# EAGLE library part FPC1020AP (library FPC1020)
FPC1020AP Fingerprint Sensor LGA Package
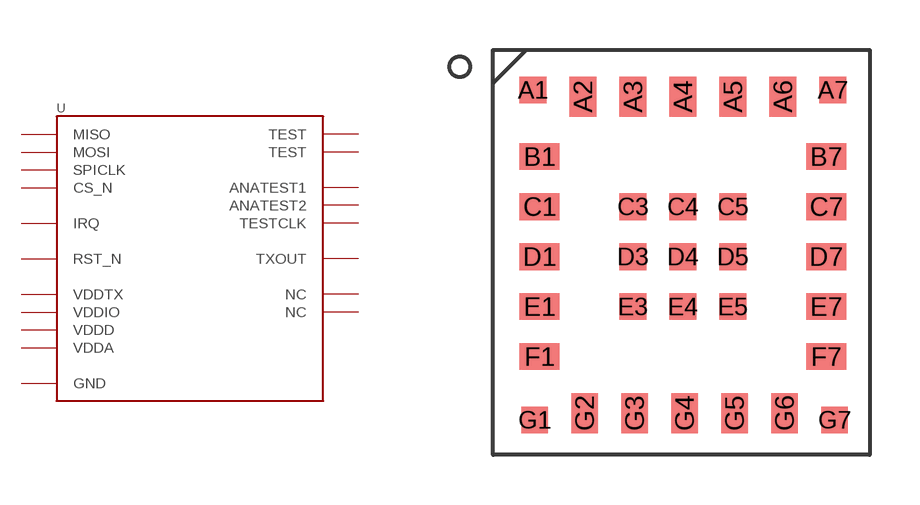
[diagram p1: symbol with the pads of FPC1020AP; footprint FPC1020AP]

Designator prefix -

## FPC1020AP  [FPC1020AP]
A1  GND  pwr
A2  TEST
A3  TESTCLK
A4  GND  pwr
A5  ANATEST1
A6  ANATEST2
A7  GND  pwr
B1  CS_N  in
B7  TEST
C1  MOSI
C3  GND  pwr
C4  GND  pwr
C5  GND  pwr
C7  NC  nc
D1  GND  pwr
D3  GND  pwr
D4  GND  pwr
D5  GND  pwr
D7  IRQ  out
E1  MISO
E3  GND  pwr
E4  GND  pwr
E5  GND  pwr
E7  TXOUT  out
F1  SPICLK  in
F7  VDDTX  pwr
G1  GND  pwr
G2  RST_N  in
G3  NC  nc
G4  VDDIO  pwr
G5  VDDD  pwr
G6  VDDA  pwr
G7  GND  pwr

## Footprint FPC1020AP (pad centres in mm)
FPC1020AP - TOUCH FINGERPRINT SENSOR LGA PACKAGE
smd 0.8 x 0.8: A1 1.2,-1.2; A7 10.2,-1.2; C3 4.2,-4.7; C4 5.7,-4.7; C5 7.2,-4.7; D3 4.2,-6.2; D4 5.7,-6.2; D5 7.2,-6.2; E3 4.2,-7.7; E4 5.7,-7.7; E5 7.2,-7.7; G1 1.25,-11.1; G7 10.25,-11.1
smd 0.8 x 1.2: A2 2.7,-1.4; A3 4.2,-1.4; A4 5.7,-1.4; A5 7.2,-1.4; A6 8.7,-1.4; G2 2.75,-10.9; G3 4.25,-10.9; G4 5.75,-10.9; G5 7.25,-10.9; G6 8.75,-10.9
smd 1.2 x 0.8: B1 1.4,-3.2; B7 10,-3.2; C1 1.4,-4.7; C7 10,-4.7; D1 1.4,-6.2; D7 10,-6.2; E1 1.4,-7.7; E7 10,-7.7; F1 1.4,-9.2; F7 10,-9.2